# EAGLE library part IC-MEMORY-8P-* (library mylib)
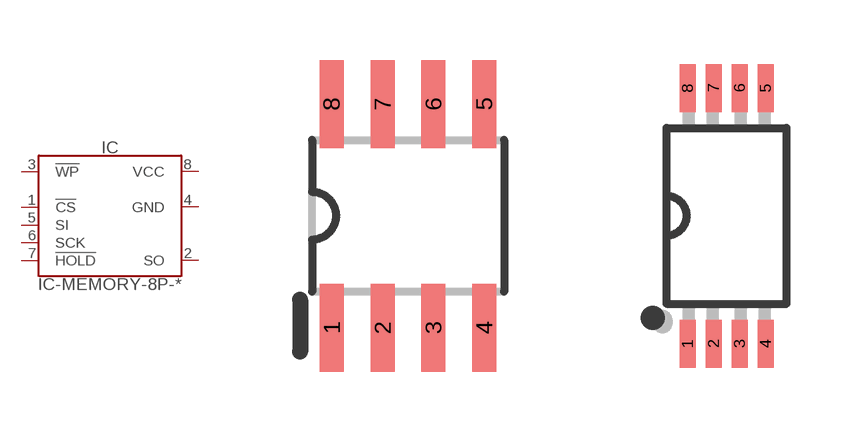
[diagram p104: symbol with the pads of IC-08-1.27-150MIL; footprints IC-08-1.27-150MIL, IC-08-0.65-160MIL]

Designator prefix IC

## IC-MEMORY-8P-23K256-I-SOP (DIGIKEY: 23K256T-I/SNCT-ND; MOUSER: 579-23K256T-I/SN), IC-MEMORY-8P-AT25DN512C-SOP (MOUSER: 988-A25DN512CSSHFGPT (cuttape)), IC-MEMORY-8P-AT25XE011-SOP (DIGIKEY: 1265-1137-1-ND), IC-MEMORY-8P-AT25XE512C-SOP (DIGIKEY: 1265-1134-1-ND)  [IC-08-1.27-150MIL]
1  !CS  in
2  SO  out
3  !WP  in
4  GND  pwr
5  SI  in
6  SCK  in
7  !HOLD  in
8  VCC  pwr

## IC-MEMORY-8P-23K256-I-TSSOP, IC-MEMORY-8P-AT25DN512C-TSSOP (MOUSER: 988-A25DN512CXMHFGPB (tube)), IC-MEMORY-8P-AT25XE011-TSSOP (DIGIKEY: 1265-1184-5-ND; MOUSER: !non-stock! 988-AT25XE011-SSHN-B), IC-MEMORY-8P-AT25XE512C-TSSOP (DIGIKEY: 1265-1136-1-ND)  [IC-08-0.65-160MIL]
Pads as for IC-08-1.27-150MIL

## Footprint IC-08-1.27-150MIL (pad centres in mm)
smd 0.6 x 2.2: 1 -1.905,-2.8; 2 -0.635,-2.8; 3 0.635,-2.8; 4 1.905,-2.8; 5 1.905,2.8; 6 0.635,2.8; 7 -0.635,2.8
smd 0.603 x 2.2: 8 -1.905,2.8

## Footprint IC-08-0.65-160MIL (pad centres in mm)
smd 0.4 x 1.2: 1 -0.975,-3.2; 2 -0.325,-3.2; 3 0.325,-3.2; 4 0.975,-3.2; 5 0.975,3.2; 6 0.325,3.2; 7 -0.325,3.2; 8 -0.975,3.2